# Altium schematic symbol library KRM55TR71H226MH01K.SchLib: 1 symbol
Pins are listed as number, name and electrical type; pins without a type are passive.

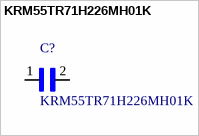
[diagram p0: symbol KRM55TR71H226MH01K]

## KRM55TR71H226MH01K
designator C?
Cap Ceramic 22uF 50V X7R 20% 2 Stacked 125C T/R; MF: Murata; Digi-Key_Purchase_URL: https://www.digikey.com/product-detail/en/murata-electronics/KRM55TR71H226MH01K/490-14395-1-ND/6606856?utm_source=snapeda&utm_medium=aggregator&utm_campaign=symbol; Package: 6153 Murata; MP: KRM55TR71H226MH01K; SnapEDA_Link: https://www.snapeda.com/parts/KRM55TR71H226MH01K/Murata/view-part/4378620/?ref=snap; Digi-Key_Part_Number: 490-14395-1-ND; Value: *
footprint *CAPC6153X500N
pins: 1, 2